# Altium footprint library INSOLTOR_LIB.PcbLib: 2 footprints
Each footprint in its own frame and in the unit in brackets; x right, y up, seen from the top. Pads: shape width x height; smd on the part's side, far side on the other; paste and mask are expansions set on the pad; w line width, h text height; cw(c..) or ccw(c..) is an arc to the next point about the centre after c.
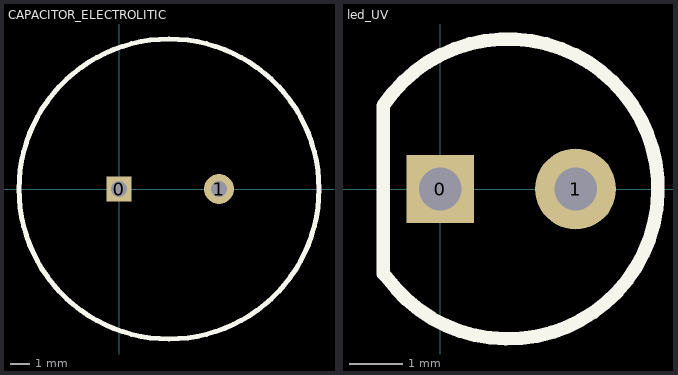
[diagram p0: the footprints below, top view; thin cyan lines are the x and y axes]

## CAPACITOR_ELECTROLITIC [mil]
pads (2):
  rect 50x50 hole 31.5: 0(0,0)
  round 60 hole 31.5: 1(200,0)
Top Overlay:
  circle w10: c100,0 r300
3D body "SW3dPS-224-0017.STEP": height 592.13, standoff -569.29, extent -96.84,-196.84 296.86,196.86

## led_UV [mil]
pads (2):
  rect 50x50 hole 31.5: 0(0,0)
  round 60 hole 31.5: 1(100,0)
Top Overlay:
  lines w10: -42.37,-62.63 -42.37,61.58 cw(c50,0) -40,-65
3D body "SW3DPS-REDLED-DEFAULT.STEP": height 287, standoff -50, extent -28.47,-58.99 128.48,78.51